# EAGLE library part 64901021122 (library Wuerth_Elektronik_eiCan_07_Mini_Power_Connectors)
WR-MPC4 4.20mm Male Dual Row Vertical Header, 10 Pins
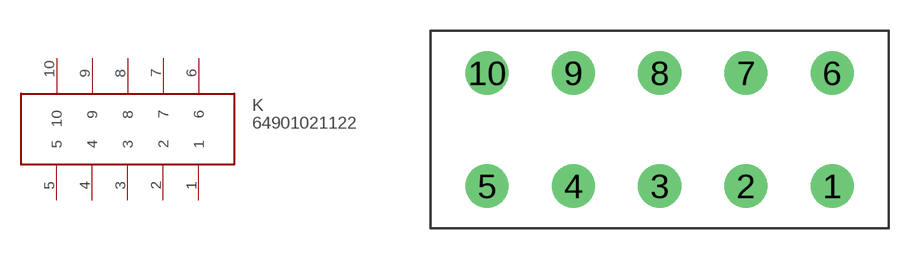
[diagram p32: symbol with the pads of 64901021122; footprint 64901021122]

Designator prefix K

## 64901021122  [64901021122]
1  1
2  2
3  3
4  4
5  5
6  6
7  7
8  8
9  9
10  10

## Footprint 64901021122 (pad centres in mm)
WR-MPC4 4.20mm Male Dual Row Vertical Header, 10 Pins
drill 1.4 round: 1 0,-2.75; 2 -4.2,-2.75; 3 -8.4,-2.75; 4 -12.6,-2.75; 5 -16.8,-2.75; 6 0,2.75; 7 -4.2,2.75; 8 -8.4,2.75; 9 -12.6,2.75; 10 -16.8,2.75